# EAGLE library part CYBER_EVF_DRIVER (library MODULES)
Module to interface the camera body with the EVF
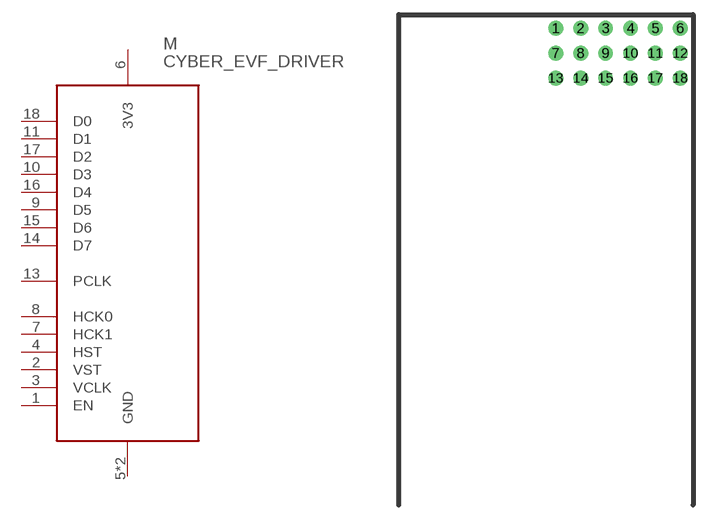
[diagram p4: symbol with the pads of CYBER_EVF_DRIVER; footprint CYBER_EVF_DRIVER]

Designator prefix M

## CYBER_EVF_DRIVER  [CYBER_EVF_DRIVER]
1  EN
2  VST
3  VCLK
4  HST
5  GND
6  3V3
7  HCK1
8  HCK0
9  D5
10  D3
11  D1
12  GND
13  PCLK
14  D7
15  D6
16  D4
17  D2
18  D0

## Footprint CYBER_EVF_DRIVER (pad centres in mm)
drill 1 pad 1.5: 1 1,23.61; 2 3.54,23.61; 3 6.08,23.61; 4 8.62,23.61; 5 11.16,23.61; 6 13.7,23.61; 7 1,21.07; 8 3.54,21.07; 9 6.08,21.07; 10 8.62,21.07; 11 11.16,21.07; 12 13.7,21.07; 13 1,18.53; 14 3.54,18.53; 15 6.08,18.53; 16 8.62,18.53; 17 11.16,18.53; 18 13.7,18.53